# Altium footprint library CN_IDC16_918516X914.PcbLib: 1 footprints
Each footprint in its own frame and in the unit in brackets; x right, y up, seen from the top. Pads: shape width x height; smd on the part's side, far side on the other; paste and mask are expansions set on the pad; w line width, h text height; cw(c..) or ccw(c..) is an arc to the next point about the centre after c.
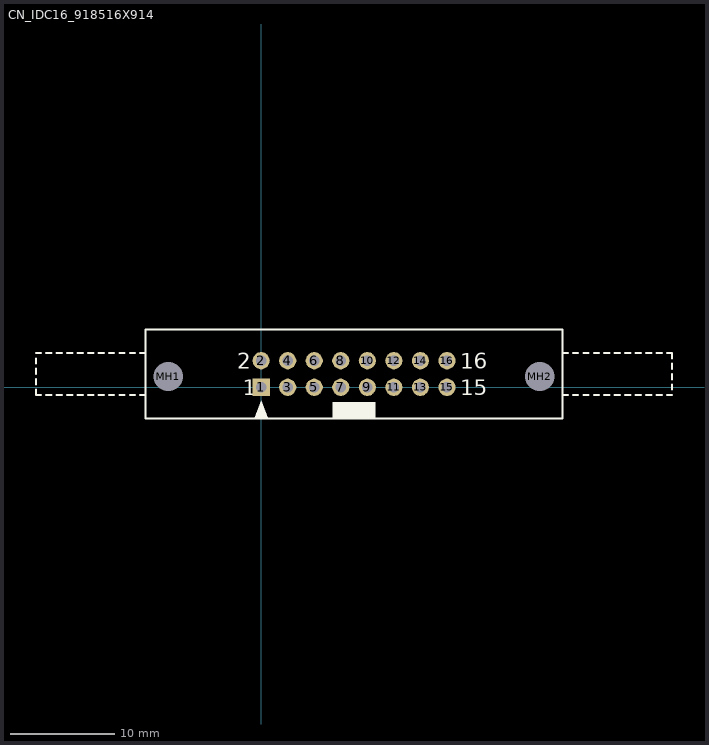
[diagram p0: the footprint, top view; thin cyan lines are the x and y axes]

## CN_IDC16_918516X914 [mm] "Connector; IDC, Thru-Hole; 16 Position; Vertical; Pitch 2.54 mm; Body 39.90 x 8.5 x 23.30 mm (LxWxH), Locking levers"
height 23.3
pads (18):
  rect 1.65x1.65 hole 1: 1(0,0)
  round 1.65 hole 1: 2(0,2.54) 3(2.54,0) 4(2.54,2.54) 5(5.08,0) 6(5.08,2.54) 7(7.62,0) 8(7.62,2.54) 9(10.16,0) 10(10.16,2.54) 11(12.7,0) 12(12.7,2.54) 13(15.24,0) 14(15.24,2.54) 15(17.78,0) 16(17.78,2.54)
  round 2.5 hole 2.8 unplated: MH1(-8.89,1.02) MH2(26.67,1.02)
Top Overlay:
  rectangle: 6.84,-2.98 10.94,-1.43
  region: 0,-1.27 0.635,-2.921 -0.635,-2.921
  lines w0.2: -21.57,-0.23 -21.56,-0.73 -21.07,-0.73 ; -21.56,0.27 -21.56,0.77 ; -21.56,1.27 -21.56,1.77 ; -21.56,2.27 -21.56,2.77 ; -21.56,3.27 -21.07,3.27 ; -20.57,-0.73 -20.07,-0.73 ; -20.57,3.27 -20.07,3.27 ; -19.57,-0.73 -19.07,-0.73 ; -19.57,3.27 -19.07,3.27 ; -18.57,-0.73 -18.07,-0.73 ; -18.57,3.27 -18.07,3.27 ; -17.57,-0.73 -17.07,-0.73 ; -17.57,3.27 -17.07,3.27 ; -16.57,-0.73 -16.07,-0.73 ; -16.57,3.27 -16.07,3.27 ; -15.57,-0.73 -15.07,-0.73 ; -15.57,3.27 -15.07,3.27 ; -14.57,-0.73 -14.07,-0.73 ; -14.57,3.27 -14.07,3.27 ; -13.57,-0.73 -13.07,-0.73 ; -13.57,3.27 -13.07,3.27 ; -12.57,-0.73 -12.07,-0.73 ; -12.57,3.27 -12.07,3.27 ; -11.57,-0.73 -11.06,-0.73 ; -11.57,3.27 -11.06,3.27 ; 28.84,-0.73 29.34,-0.73 ; 28.84,3.27 29.34,3.27 ; 29.84,-0.73 30.34,-0.73 ; 29.84,3.27 30.34,3.27 ; 30.84,-0.73 31.34,-0.73 ; 30.84,3.27 31.34,3.27 ; 31.84,-0.73 32.34,-0.73 ; 31.84,3.27 32.34,3.27 ; 32.84,-0.73 33.34,-0.73 ; 32.84,3.27 33.34,3.27 ; 33.84,-0.73 34.34,-0.73 ; 33.84,3.27 34.34,3.27 ; 34.84,-0.73 35.34,-0.73 ; 34.84,3.27 35.34,3.27 ; 35.84,-0.73 36.34,-0.73 ; 35.84,3.27 36.34,3.27 ; 36.84,-0.73 37.34,-0.73 ; 36.84,3.27 37.34,3.27 ; 37.84,-0.73 38.34,-0.73 ; 37.84,3.27 38.34,3.27 ; 38.84,-0.73 39.34,-0.73 ; 38.84,3.27 39.34,3.27 39.34,2.77 ; 39.34,-0.23 39.34,0.27 ; 39.34,0.77 39.34,1.27 ; 39.34,1.77 39.34,2.27 ; -11.06,-2.98 -11.06,5.52 28.84,5.52 28.84,-2.98 -11.06,-2.98
  text "2" at -2.28,1.79 h1.5
  text "1" at -1.78,-0.75 h1.5
  text "16" at 19.06,1.79 h1.5
  text "15" at 19.06,-0.75 h1.5
3D body: height 25.75, standoff -3.2, extent -11.06,-2.98 28.84,5.52